# Altium integrated library 3CH_SW.IntLib: 26 symbols
Pins are listed as number, name and electrical type; pins without a type are passive.

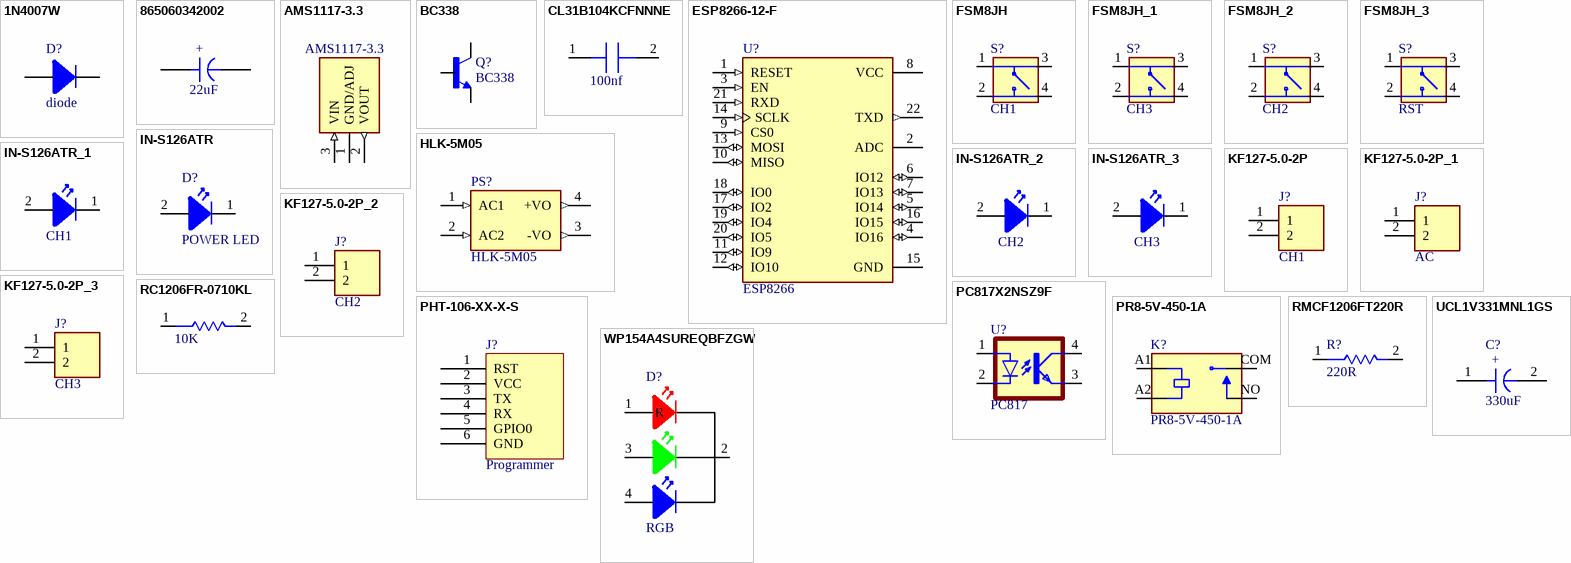
[diagram p0: symbols 1N4007W to WP154A4SUREQBFZGW]

## 1N4007W
designator D?, comment diode
Diode 1000 V 1A Surface Mount SOD-123FL; P/N: 5272-1N4007WDKR-ND; ComponentLink1Description: Link; ComponentLink1URL: https://www.digikey.com/en/products/detail/evvo/1N4007W/21407138
footprint 1N4007W
pins: 1, 2 12

## 865060342002
designator C?, comment 22uF
22 µF 16 V Aluminum Electrolytic Capacitors Radial, Can - SMD 2000 Hrs @ 105°C; P/N: 732-8519-6-ND; ComponentLink1Description: Link; ComponentLink1URL: https://www.digikey.com/en/products/detail/w%C3%BCrth-elektronik/865060342002/5728114
footprint 865060342002
pins: 1, 2
text: +

## AMS1117-3.3
designator U?
Sot223/Pkg 1-Amp 3.3-Volt Low Drop Out Voltage Regulatator; ComponentLink1Description: Link; ComponentLink1URL: https://makerselectronics.com/product/ams1117-3-3v-smd-fixed-12v-3-3v-800ma-sot-223-dropout-regulators
footprint AMS1117-3.3
pins: 1 GND/ADJ (power), 2 VOUT (out), 3 VIN (in)

## BC338
designator Q?
Bipolar (BJT) Transistor NPN 25 V 800 mA 100MHz 625 mW Through Hole TO-92-3; P/N: BC338-ND; ComponentLink1Description: Link; ComponentLink1URL: https://www.digikey.com/en/products/detail/onsemi/BC338/978413
footprint BC338
pins: B, C, E

## CL31B104KCFNNNE
designator C?, comment 100nf
0.1 µF ±10% 100V Ceramic Capacitor X7R 1206 (3216 Metric); P/N: 1276-1151-6-ND; ComponentLink1Description: Link; ComponentLink1URL: https://www.digikey.com/en/products/detail/samsung-electro-mechanics/CL31B104KCFNNNE/3886809
footprint CL31B104KCFNNNE
pins: 1, 2

## ESP8266-12-F
designator U?, comment ESP8266
This WiFi module has a 32-bit MCU micro and clock speeds supporting 80 MHz or 160 MHz. Supports the RTOS and integrated Wi-Fi MAC/BB/RF/PA/LNA, and has an on-board antenna.; ComponentLink1Description: Link; ComponentLink1URL: https://makerselectronics.com/product/wifi-esp8266-12-f-module
footprint ESP8266-12-F
pins: 1 RESET (in), 2 ADC, 3 EN (in), 4 IO16 (io), 5 IO14 (io), 6 IO12 (io), 7 IO13 (io), 8 VCC (power), 9 CS0 (in), 10 MISO (io), 11 IO9 (io), 12 IO10 (io), 13 MOSI (io), 14 SCLK (in), 15 GND (power), 16 IO15 (io), 17 IO2 (io), 18 IO0 (io), 19 IO4 (io), 20 IO5 (io), 21 RXD (in), 22 TXD (out)

## FSM8JH
designator S?, comment CH1
Tactile Switch SPST-NO Top Actuated Through Hole; ComponentLink1Description: Link; ComponentLink1URL: https://makerselectronics.com/product/mini-push-button-switch-4-pin-6x6x5mm
footprint FSM8JH
pins: 1, 2, 3, 4

## FSM8JH_1
designator S?, comment CH3
Tactile Switch SPST-NO Top Actuated Through Hole; ComponentLink1Description: Link; ComponentLink1URL: https://makerselectronics.com/product/mini-push-button-switch-4-pin-6x6x5mm
footprint FSM8JH
pins: 1, 2, 3, 4

## FSM8JH_2
designator S?, comment CH2
Tactile Switch SPST-NO Top Actuated Through Hole; ComponentLink1Description: Link; ComponentLink1URL: https://makerselectronics.com/product/mini-push-button-switch-4-pin-6x6x5mm
footprint FSM8JH
pins: 1, 2, 3, 4

## FSM8JH_3
designator S?, comment RST
Tactile Switch SPST-NO Top Actuated Through Hole; ComponentLink1Description: Link; ComponentLink1URL: https://makerselectronics.com/product/mini-push-button-switch-4-pin-6x6x5mm
footprint FSM8JH
pins: 1, 2, 3, 4

## HLK-5M05
designator PS?
AC DC 220V to 5V 5W 5Watt Isolated Switching Step-Down Power Supply Module Converter; ComponentLink1Description: Link; ComponentLink1URL: https://makerselectronics.com/product/hlk-5m05-ac-dc-power-module
footprint HLK-5M05
pins: 1 AC1 (in), 2 AC2 (in), 3 -VO (out), 4 +VO (out)

## IN-S126ATR
designator D?, comment POWER LED
Red 622nm LED Indication - Discrete 2V 1206 (3216 Metric); ComponentLink1Description: Link; ComponentLink1URL: https://makerselectronics.com/product/smd-led-red-1206
footprint IN-S126ATR
pins: 1, 2 12

## IN-S126ATR_1
designator D?, comment CH1
Red 622nm LED Indication - Discrete 2V 1206 (3216 Metric); ComponentLink1Description: Link; ComponentLink1URL: https://makerselectronics.com/product/smd-led-red-1206
footprint IN-S126ATR
pins: 1, 2 12

## IN-S126ATR_2
designator D?, comment CH2
Red 622nm LED Indication - Discrete 2V 1206 (3216 Metric); ComponentLink1Description: Link; ComponentLink1URL: https://makerselectronics.com/product/smd-led-red-1206
footprint IN-S126ATR
pins: 1, 2 12

## IN-S126ATR_3
designator D?, comment CH3
Red 622nm LED Indication - Discrete 2V 1206 (3216 Metric); ComponentLink1Description: Link; ComponentLink1URL: https://makerselectronics.com/product/smd-led-red-1206
footprint IN-S126ATR
pins: 1, 2 12

## KF127-5.0-2P
designator J?, comment CH1
Connector, Terminal Block; Wire Receptacle; 2 Pos.; 16-30 AWG; 0.197 in. CL; Sid; ComponentLink1Description: Link; ComponentLink1URL: https://makerselectronics.com/product/kf127-5-0-2p-green-terminal-block
footprint KF127-5.0-2P
pins: 1, 2

## KF127-5.0-2P_1
designator J?, comment AC
Connector, Terminal Block; Wire Receptacle; 2 Pos.; 16-30 AWG; 0.197 in. CL; Sid; ComponentLink1Description: Link; ComponentLink1URL: https://makerselectronics.com/product/kf127-5-0-2p-green-terminal-block
footprint KF127-5.0-2P
pins: 1, 2

## KF127-5.0-2P_2
designator J?, comment CH2
Connector, Terminal Block; Wire Receptacle; 2 Pos.; 16-30 AWG; 0.197 in. CL; Sid; ComponentLink1Description: Link; ComponentLink1URL: https://makerselectronics.com/product/kf127-5-0-2p-green-terminal-block
footprint KF127-5.0-2P
pins: 1, 2

## KF127-5.0-2P_3
designator J?, comment CH3
Connector, Terminal Block; Wire Receptacle; 2 Pos.; 16-30 AWG; 0.197 in. CL; Sid; ComponentLink1Description: Link; ComponentLink1URL: https://makerselectronics.com/product/kf127-5-0-2p-green-terminal-block
footprint KF127-5.0-2P
pins: 1, 2

## PC817X2NSZ9F
designator U?, comment PC817
Optoisolator Transistor Output 5000Vrms 1 Channel 4-DIP; P/N: PC817X2NSZ9F-ND; ComponentLink1Description: Link; ComponentLink1URL: https://www.digikey.com/en/products/detail/sharp-socle-technology/PC817X2NSZ9F/7942022
footprint PC817X2NSZ9F
pins: 1 A, 2 C, 3 EMIT, 4 COL

## PHT-106-XX-X-S
designator J?, comment Programmer
6 pin male pin header
footprint PHT-106-XX-X-S
pins: 1 RST, 2 VCC, 3 TX, 4 RX, 5 GPIO0, 6 GND

## PR8-5V-450-1A
designator K?
18.2 x 10.2 x 15.5 mm, 5 V, 16 A, SPST (1 Form A), Power Relay; ComponentLink1Description: Makers Link; ComponentLink1URL: https://makerselectronics.com/product/fanhar-relay-fh17-1a2tle
footprint PR8-5V-450-1A
pins: A1 COIL1, A2 COIL2, COM, NO

## RC1206FR-0710KL
designator R?, comment 10K
10 kOhms ±1% 0.25W, 1/4W Chip Resistor 1206 (3216 Metric) Moisture Resistant Thick Film; P/N: 311-10.0KFRDKR-ND; ComponentLink1Description: Digikey link; ComponentLink1URL: https://www.digikey.com/en/products/detail/yageo/RC1206FR-0710KL/728483; ComponentLink2Description: Makers link; ComponentLink2URL: https://makerselectronics.com/product/chip-resistor-smd-10k%cf%89-%c2%b11-250mw-1206
footprint RC1206FR-0710KL
pins: 1, 2

## RMCF1206FT220R
designator R?, comment 220R
220 Ohms ±1% 0.25W, 1/4W Chip Resistor 1206 (3216 Metric) Automotive AEC-Q200 Thick Film; P/N: RMCF1206FT220RDKR-ND; ComponentLink1Description: link; ComponentLink1URL: https://www.digikey.com/en/products/detail/stackpole-electronics-inc/RMCF1206FT220R/1759830
footprint RMCF1206FT220R
pins: 1, 2

## UCL1V331MNL1GS
designator C?, comment 330uF
330 µF 35 V Aluminum Electrolytic Capacitors Radial, Can - SMD 2000 Hrs @ 105°C; P/N: 493-3959-6-ND; ComponentLink1Description: Link; ComponentLink1URL: https://www.digikey.com/en/products/detail/nichicon/UCL1V331MNL1GS/2300308
footprint UCL1V331MNL1GS
pins: 1, 2
text: +

## WP154A4SUREQBFZGW
designator D?, comment RGB
Red, Green, Blue (RGB) 630nm Red, 525nm Green, 465nm Blue LED Indication - Discrete 1.9V Red, 3.3V Green, 3.3V Blue Radial - 4 Leads; P/N: 754-1492-ND; ComponentLink1Description: Digikey_link; ComponentLink1URL: https://www.digikey.com/en/products/detail/kingbright/WP154A4SUREQBFZGW/2261457?s=N4IgjCBcoMwOxVAYygMwIYBsDOBTANCAPZQDaIMAnAKwwBsMIAuoQA4AuUIAyuwE4BLAHYBzEAF9CAFjqIQKSBhwFiZEACZ1lSuogsQHLr0GiJhOpTkKleQiUjkpYMAA5KCfYcg9%2BwsZPAXKUZoeTQsW1UHChgXOmp1ZjZOb2M-MxAAWllQhX4AVxV7ckZCRKZxSqA; ComponentLink2Description: Makers_Link; ComponentLink2URL: https://makerselectronics.com/product/rgb-diffused-led-common-cathode-5mm/
footprint WP154A4SUREQBFZGW
pins: 1 R, 2 GND, 3 G, 4 B